# EAGLE library part 1X6 (library Con-2-12-RM3,5)
1x6
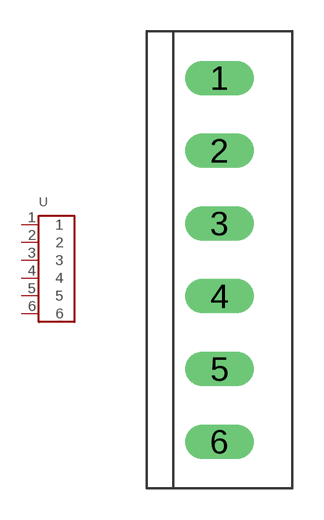
[diagram p0: symbol with the pads of 1X6; footprint 1X6]

Designator prefix -

## 1X6  [1X6]
1  1
2  2
3  3
4  4
5  5
6  6

## Footprint 1X6 (pad centres in mm)
1x6
drill 1.1 long: 1 0,8.75; 2 0,5.25; 3 0,1.75; 4 0,-1.75; 5 0,-5.25; 6 0,-8.75